# Altium footprint library 8pathNPF.PcbLib: 1 footprints
Each footprint in its own frame and in the unit in brackets; x right, y up, seen from the top. Pads: shape width x height; smd on the part's side, far side on the other; paste and mask are expansions set on the pad; w line width, h text height; cw(c..) or ccw(c..) is an arc to the next point about the centre after c.
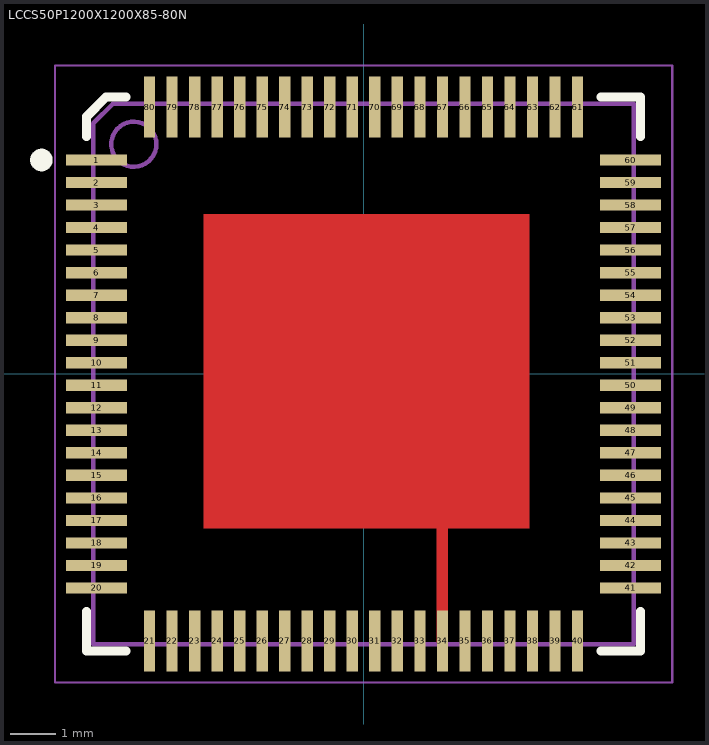
[diagram p0: the footprint, top view; thin cyan lines are the x and y axes]

## LCCS50P1200X1200X85-80N [mm] "LCC, 80-Pins, Body 12.00x12.00mmx0.85mm, Pitch 0.50mm, IPC Medium Density"
height 0.85
pads (80):
  rect 1.35x0.25 smd: 1(-5.925,4.75) 2(-5.925,4.25) 3(-5.925,3.75) 4(-5.925,3.25) 5(-5.925,2.75) 6(-5.925,2.25) 7(-5.925,1.75) 8(-5.925,1.25) 9(-5.925,0.75) 10(-5.925,0.25) 11(-5.925,-0.25) 12(-5.925,-0.75) 13(-5.925,-1.25) 14(-5.925,-1.75) 15(-5.925,-2.25) 16(-5.925,-2.75) 17(-5.925,-3.25) 18(-5.925,-3.75) 19(-5.925,-4.25) 20(-5.925,-4.75) 41(5.925,-4.75) 42(5.925,-4.25) 43(5.925,-3.75) 44(5.925,-3.25) 45(5.925,-2.75) 46(5.925,-2.25) 47(5.925,-1.75) 48(5.925,-1.25) 49(5.925,-0.75) 50(5.925,-0.25) 51(5.925,0.25) 52(5.925,0.75) 53(5.925,1.25) 54(5.925,1.75) 55(5.925,2.25) 56(5.925,2.75) 57(5.925,3.25) 58(5.925,3.75) 59(5.925,4.25) 60(5.925,4.75)
  rect 0.25x1.35 smd: 21(-4.75,-5.925) 22(-4.25,-5.925) 23(-3.75,-5.925) 24(-3.25,-5.925) 25(-2.75,-5.925) 26(-2.25,-5.925) 27(-1.75,-5.925) 28(-1.25,-5.925) 29(-0.75,-5.925) 30(-0.25,-5.925) 31(0.25,-5.925) 32(0.75,-5.925) 33(1.25,-5.925) 34(1.75,-5.925) 35(2.25,-5.925) 36(2.75,-5.925) 37(3.25,-5.925) 38(3.75,-5.925) 39(4.25,-5.925) 40(4.75,-5.925) 61(4.75,5.925) 62(4.25,5.925) 63(3.75,5.925) 64(3.25,5.925) 65(2.75,5.925) 66(2.25,5.925) 67(1.75,5.925) 68(1.25,5.925) 69(0.75,5.925) 70(0.25,5.925) 71(-0.25,5.925) 72(-0.75,5.925) 73(-1.25,5.925) 74(-1.75,5.925) 75(-2.25,5.925) 76(-2.75,5.925) 77(-3.25,5.925) 78(-3.75,5.925) 79(-4.25,5.925) 80(-4.75,5.925)
Top Layer:
  rectangle: -3.556,-3.429 3.683,3.556
  lines w0.254: 1.75,-5.925 1.75,-3.33
Top Overlay:
  circle w0.25: c-7.15,4.75 r0.125
  lines w0.2: -6.15,-5.275 -6.15,-6.15 -5.275,-6.15 ; -6.15,5.275 -6.15,5.713 -5.713,6.15 -5.275,6.15 ; 5.275,-6.15 6.15,-6.15 6.15,-5.275 ; 5.275,6.15 6.15,6.15 6.15,5.275
Mechanical 13:
  circle w0.1: c-5.1,5.1 r0.5
  lines w0.1: -6,-6 -6,5.562 -5.562,6 6,6 6,-6 -6,-6
Mechanical 15:
  lines w0.05: -6.85,-6.85 -6.85,6.85 6.85,6.85 6.85,-6.85 -6.85,-6.85
  lines w0.1: -0.5,0 0.5,0 ; 0,-0.5 0,0.5
3D body: height 0.85, standoff 0, extent -6,-6 6,6